# Altium footprint library LL.PcbLib: 1 footprints
Each footprint in its own frame and in the unit in brackets; x right, y up, seen from the top. Pads: shape width x height; smd on the part's side, far side on the other; paste and mask are expansions set on the pad; w line width, h text height; cw(c..) or ccw(c..) is an arc to the next point about the centre after c.
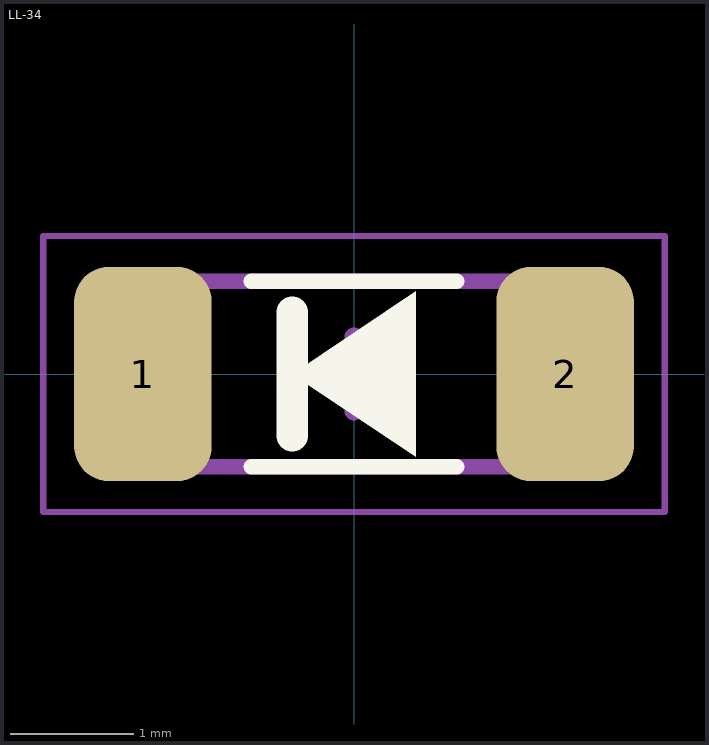
[diagram p0: the footprint, top view; thin cyan lines are the x and y axes]

## LL-34 [mm]
height 1.6
pads (2):
  rrect50% 1.11x1.73 smd: 1(-1.705,0) 2(1.705,0)
Top Overlay:
  region: 0.5,-0.667 0.5,0.667 -0.5,0
  lines w0.127: -0.83,-0.75 0.83,-0.75 ; -0.83,0.75 0.83,0.75
  lines w0.254: -0.5,-0.5 -0.5,0.5
Top Assembly:
  lines w0.127: -1.75,-0.75 1.75,-0.75 1.75,0.75 -1.75,0.75 -1.75,-0.75
Top Component Outline:
  lines w0.05: -2.51,-1.115 2.51,-1.115 2.51,1.115 -2.51,1.115 -2.51,-1.115
  lines w0.15: -0.3,0 0.3,0 ; 0,-0.3 0,0.3
3D body "LL-34.STEP": height 1.6, standoff 0, extent -1.75,-0.838 1.75,0.75